# EAGLE library part TE-1-282834-0-DOUBLE (library OpenSourceSyringePump)
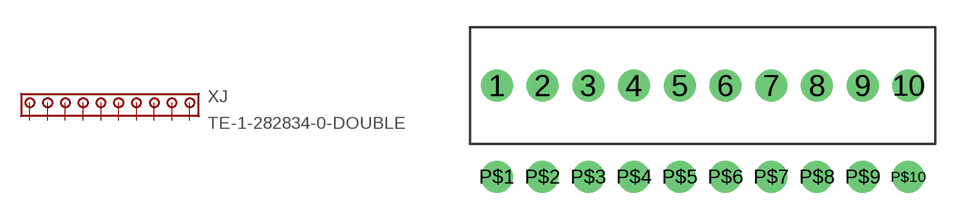
[diagram p4: symbol with the pads of TE-1-282834-0-DOUBLE; footprint TE-1-282834-0-DOUBLE]

Designator prefix XJ

## TE-1-282834-0-DOUBLE  [TE-1-282834-0-DOUBLE]
1  1  pas
2  2  pas
3  3  pas
4  4  pas
5  5  pas
6  6  pas
7  7  pas
8  8  pas
9  9  pas
10  10  pas
P$1  1  pas
P$2  2  pas
P$3  3  pas
P$4  4  pas
P$5  5  pas
P$6  6  pas
P$7  7  pas
P$8  8  pas
P$9  9  pas
P$10  10  pas

## Footprint TE-1-282834-0-DOUBLE (pad centres in mm)
drill 0.94 pad 1.778: 1 -11.43,0; 2 -8.89,0; 3 -6.35,0; 4 -3.81,0; 5 -1.27,0; 6 1.27,0; 7 3.81,0; 8 6.35,0; 9 8.89,0; 10 11.43,0; P$1 -11.43,-5.08; P$2 -8.89,-5.08; P$3 -6.35,-5.08; P$4 -3.81,-5.08; P$5 -1.27,-5.08; P$6 1.27,-5.08; P$7 3.81,-5.08; P$8 6.35,-5.08; P$9 8.89,-5.08; P$10 11.43,-5.08